# Altium schematic symbol library 74HC595PW-Q100,118.SchLib: 2 symbols
Pins are listed as number, name and electrical type; pins without a type are passive.

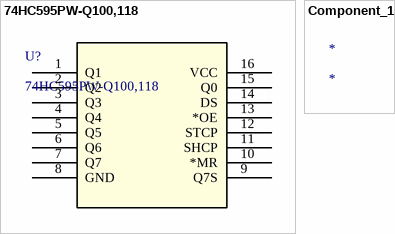
[diagram p0: symbols 74HC595PW-Q100,118 to Component_1]

## 74HC595PW-Q100,118
designator U?
No Description Available; Mfr_Name: Nexperia; Copyright: Copyright (C) 2022 Ultra Librarian. All rights reserved.; Manufacturer_Part_Number: 74HC595PW-Q100,118; RefDes: RefDes; Type: DEV
footprint 74HC595PW-Q100,118_NEX
footprint TSSOP16_N (5*6.4*1mm（长宽高） 封装库来自淘宝卖家 ID：黄晶宝石)
pins: 1 Q1, 2 Q2, 3 Q3, 4 Q4, 5 Q5, 6 Q6, 7 Q7, 8 GND, 9 Q7S, 10 *MR, 11 SHCP, 12 STCP, 13 *OE, 14 DS, 15 Q0, 16 VCC

## Component_1
designator *